# Altium footprint library Logo_PIF.PcbLib: 2 footprints
Each footprint in its own frame and in the unit in brackets; x right, y up, seen from the top. Pads: shape width x height; smd on the part's side, far side on the other; paste and mask are expansions set on the pad; w line width, h text height; cw(c..) or ccw(c..) is an arc to the next point about the centre after c.

## 00--PIF LOGO SMALL Silkscreen_1 [mm]
Top Overlay:
  drawing of 478 lines, arcs and shapes, not listed

## 00--PIF LOGO SMALL Silkscreen_2 [mm]
Top Overlay:
  drawing of 478 lines, arcs and shapes, not listed